# Altium schematic symbol library TI-LDO.SchLib: 4 symbols
Pins are listed as number, name and electrical type; pins without a type are passive.

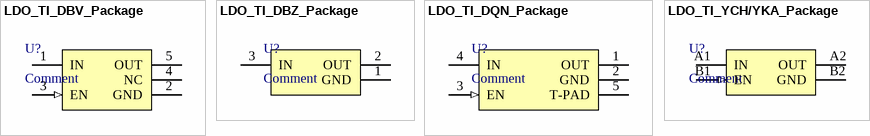
[diagram p0: symbols LDO_TI_DBV_Package to LDO_TI_YCH/YKA_Package]

## LDO_TI_DBV_Package
designator U?, comment Comment
pins: 1 IN (power) "Input Voltage", 2 GND (power) "Ground", 3 EN (in) "Enable Input", 4 NC "Not Connected", 5 OUT (power) "Regulated output"

## LDO_TI_DBZ_Package
designator U?, comment Comment
pins: 1 GND (power) "Ground", 2 OUT (power) "Regulated output", 3 IN (power) "Input Voltage"

## LDO_TI_DQN_Package
designator U?, comment Comment
pins: 1 OUT (power) "Regulated output", 2 GND (power) "Ground", 3 EN (in) "Enable Input", 4 IN (power) "Input Voltage", 5 T-PAD "Thermal Pad"

## LDO_TI_YCH/YKA_Package
designator U?, comment Comment
pins: A1 IN (power) "Input Voltage", A2 OUT (power) "Regulated output", B1 EN (in) "Enable Input", B2 GND (power) "Ground"